# EAGLE library part LT3652 (library BatteryChargeIC)
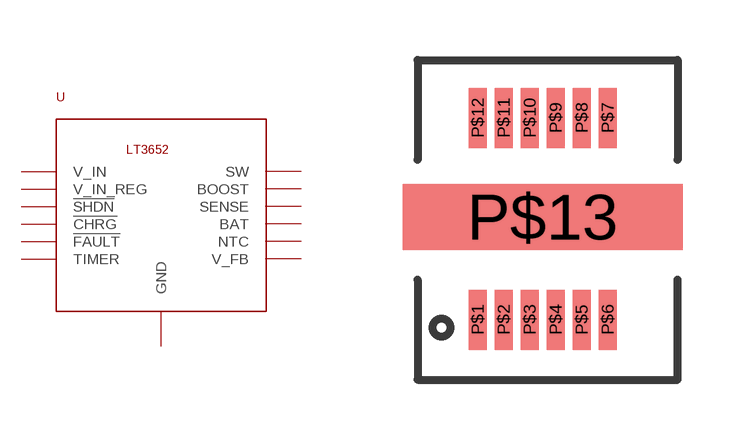
[diagram p1: symbol with the pads of MSOP-12; footprint MSOP-12]

Designator prefix U

## LT3652HVIMSE  [MSOP-12]
P$1  V_IN  pwr
P$2  V_IN_REG  pwr
P$3  !SHDN!
P$4  !CHRG!
P$5  !FAULT!
P$6  TIMER
P$7  V_FB
P$8  NTC
P$9  BAT
P$10  SENSE
P$11  BOOST
P$12  SW
P$13  GND  pwr

## Footprint MSOP-12 (pad centres in mm)
smd 0.45 x 1.5: P$1 0,0; P$2 0.65,0; P$3 1.3,0; P$4 1.95,0; P$5 2.6,0; P$6 3.25,0; P$7 3.25,5.05; P$8 2.6,5.05; P$9 1.95,5.05; P$10 1.3,5.05; P$11 0.65,5.05; P$12 0,5.05
smd 7 x 1.65: P$13 1.625,2.575